# Altium footprint library SOT.PcbLib: 31 footprints (part 2 of 2)
Each footprint in its own frame and in the unit in brackets; x right, y up, seen from the top. Pads: shape width x height; smd on the part's side, far side on the other; paste and mask are expansions set on the pad; w line width, h text height; cw(c..) or ccw(c..) is an arc to the next point about the centre after c.
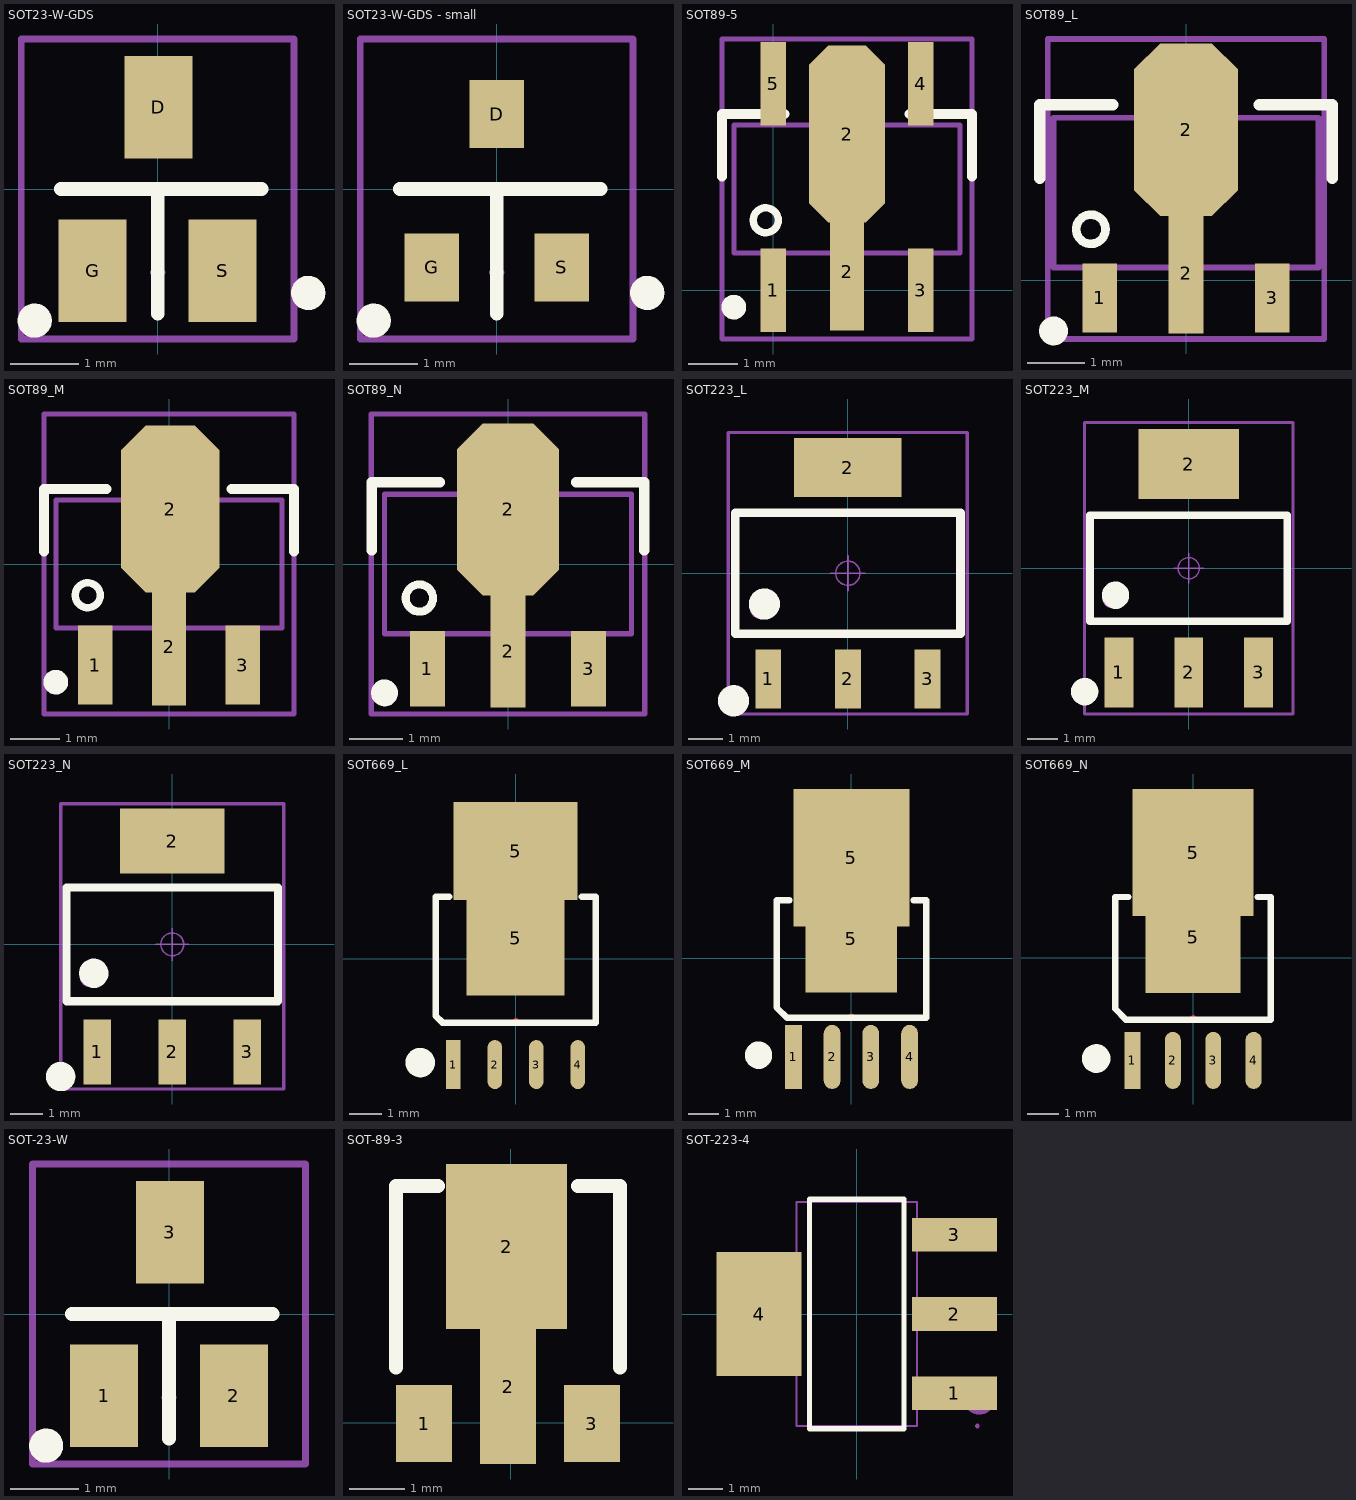
[diagram p1: the footprints below, top view; thin cyan lines are the x and y axes]

## SOT23-W-GDS [mm]
height 10
pads (3):
  rect 1x1.5 smd: D(0.013,1.2) G(-0.953,-1.2) S(0.953,-1.2)
Top Overlay:
  circle w0.25: c-1.801,-1.93 r0.125
  circle w0.25: c2.21,-1.524 r0.125
  lines w0.2: -1.422,0 1.524,0 ; 0,-1.829 0,0
Mechanical 15:
  lines w0.1: -0.064,-1.227 0.064,-1.227 ; -2,-2.2 -2,2.2 2,2.2 2,-2.2 -2,-2.2
3D body "SOT-23-3.STEP": height -0.38, standoff -1.58, extent -1.425,-1.375 1.475,1.425
3D body: height 0.1, standoff 0, extent -1.999,-2.199 1.999,2.199

## SOT23-W-GDS - small [mm]
height 10
pads (3):
  rect 0.8x1 smd: D(0,1.1) G(-0.953,-1.15) S(0.953,-1.15)
Top Overlay:
  circle w0.25: c2.21,-1.524 r0.125
  circle w0.25: c-1.801,-1.93 r0.125
  lines w0.2: -1.422,0 1.524,0 ; 0,-1.829 0,0
Mechanical 15:
  lines w0.1: -0.064,-1.227 0.064,-1.227 ; -2,-2.2 2,-2.2 2,2.2 -2,2.2 -2,-2.2
3D body "SOT-23-3.STEP": height -0.38, standoff -1.58, extent -1.425,-1.375 1.475,1.425
3D body: height 0.1, standoff 0, extent -1.999,-2.199 1.999,2.199

## SOT89-5 [mm]
pads (6):
  rect 0.52x1.7 smd: 1(0,0) 3(3,0) 4(3,4.191) 5(0,4.191)
  rect 0.7x2.4 smd: 2(1.5,0.378)
  oct 1.55x3.6 smd: 2(1.5,3.172)
Top Overlay:
  circle w0.25: c-0.8,-0.346 r0.125
  circle w0.15: c-0.151,1.419 r0.254
  lines w0.2: -1.04,2.308 -1.04,3.578 0.23,3.578 ; 2.77,3.578 4.04,3.578 4.04,2.308
Mechanical 13:
  circle w0.1: c-0.151,1.419 r0.25
  lines w0.1: -0.8,0.754 3.8,0.754 3.8,3.354 -0.8,3.354 -0.8,0.754
Mechanical 15:
  circle w0.05: c1.5,2.054 r0.35
  lines w0.05: 1,2.054 2,2.054 ; 1.5,1.554 1.5,2.554
  lines w0.1: -1.04,-0.994 -1.04,5.102 4.04,5.102 4.04,-0.994 -1.04,-0.994
3D body "SOT89.STEP": height 1.6, standoff 0.04, extent -0.8,-0.346 3.8,3.954

## SOT89_L [mm] "4.6x4.3x1.6mm(长宽高)"
height 1.6
pads (4):
  rect 0.6x1.2 smd: 1(-1.5,-0.303) 3(1.5,-0.303)
  rect 0.6x2.1 smd: 2(0,0.127)
  oct 1.8x3 smd: 2(0,2.616)
Top Overlay:
  circle w0.15: c-1.651,0.889 r0.254
  circle w0.25: c-2.3,-0.876 r0.125
  lines w0.2: -2.54,1.778 -2.54,3.048 -1.27,3.048 ; 1.27,3.048 2.54,3.048 2.54,1.778
Mechanical 13:
  circle w0.1: c-1.651,0.889 r0.25
  lines w0.1: -2.3,0.224 -2.3,2.824 2.3,2.824 2.3,0.224 -2.3,0.224
Mechanical 15:
  circle w0.05: c0,1.524 r0.35
  lines w0.05: -0.5,1.524 0.5,1.524 ; 0,1.024 0,2.024
  lines w0.1: -2.4,-1.016 -2.4,4.191 2.4,4.191 2.4,-1.016 -2.4,-1.016
3D body "SOT89.STEP": height 1.6, standoff 0.04, extent -2.3,-0.876 2.3,3.424

## SOT89_M [mm] "4.6x4.3x1.6mm(长宽高)"
height 1.6
pads (4):
  rect 0.7x1.6 smd: 1(-1.5,-2.054) 3(1.5,-2.054)
  rect 0.7x2.4 smd: 2(0,-1.676)
  oct 2x3.4 smd: 2(0.025,1.118)
Top Overlay:
  circle w0.15: c-1.651,-0.635 r0.254
  circle w0.25: c-2.3,-2.4 r0.125
  lines w0.2: -2.54,0.254 -2.54,1.524 -1.27,1.524 ; 1.27,1.524 2.54,1.524 2.54,0.254
Mechanical 13:
  circle w0.1: c-1.651,-0.635 r0.25
  lines w0.1: -2.3,-1.3 -2.3,1.3 2.3,1.3 2.3,-1.3 -2.3,-1.3
Mechanical 15:
  circle w0.05: c0,0 r0.35
  lines w0.05: -0.5,0 0.5,0 ; 0,-0.5 0,0.5
  lines w0.1: -2.54,-3.048 2.54,-3.048 2.54,3.048 -2.54,3.048 -2.54,-3.048
3D body "SOT89.STEP": height 1.6, standoff 0.04, extent -2.3,-2.4 2.3,1.9

## SOT89_N [mm] "4.6x4.3x1.6mm(长宽高)"
height 1.6
pads (4):
  rect 0.65x1.4 smd: 1(-1.5,-1.952) 3(1.5,-1.952)
  rect 0.65x2.1 smd: 2(0,-1.626)
  oct 1.9x3.2 smd: 2(0,1.016)
Top Overlay:
  circle w0.15: c-1.651,-0.635 r0.254
  circle w0.25: c-2.3,-2.4 r0.125
  lines w0.2: -2.54,0.254 -2.54,1.524 -1.27,1.524 ; 1.27,1.524 2.54,1.524 2.54,0.254
Mechanical 13:
  circle w0.1: c-1.651,-0.635 r0.25
  lines w0.1: -2.3,-1.3 -2.3,1.3 2.3,1.3 2.3,-1.3 -2.3,-1.3
Mechanical 15:
  circle w0.05: c0,0 r0.35
  lines w0.05: -0.5,0 0.5,0 ; 0,-0.5 0,0.5
  lines w0.1: -2.55,-2.794 2.55,-2.794 2.55,2.794 -2.55,2.794 -2.55,-2.794
3D body "SOT89.STEP": height 1.6, standoff 0.04, extent -2.3,-2.4 2.3,1.9

## SOT223_L [mm] "6.4x7x1.6mm(长宽高)"
height 1.7
pads (4):
  rect 0.75x1.7 smd: 1(-2.3,-3.048) 2(0,-3.048) 3(2.3,-3.048)
  rect 3.1x1.7 smd: 2(0,3.048)
Top Overlay:
  circle w0.5: c-3.302,-3.683 r0.2
  circle w0.5: c-2.413,-0.889 r0.2
  lines w0.25: -3.25,-1.75 3.25,-1.75 3.25,1.75 -3.25,1.75 -3.25,-1.75
Mechanical 13:
  circle w0.1: c-2.536,-1.016 r0.25
  lines w0.1: -3.25,-1.75 3.25,-1.75 3.25,1.75 -3.25,1.75 -3.25,-1.75
Mechanical 15:
  circle w0.05: c0,0 r0.35
  lines w0.05: -0.5,0 0.5,0 ; 0,-0.5 0,0.5
  lines w0.1: -3.45,-4.064 3.45,-4.064 3.45,4.064 -3.45,4.064 -3.45,-4.064
3D body "SOT223.STEP": height 1.65, standoff -0.02, extent -3.25,-3.508 3.25,3.508

## SOT223_M [mm] "6.4x7x1.6mm(长宽高)"
height 1.7
pads (4):
  rect 0.95x2.3 smd: 1(-2.3,-3.429) 2(0,-3.429) 3(2.3,-3.429)
  rect 3.3x2.3 smd: 2(0,3.429)
Top Overlay:
  circle w0.5: c-3.429,-4.064 r0.2
  circle w0.5: c-2.413,-0.889 r0.2
  lines w0.25: -3.25,-1.75 3.25,-1.75 3.25,1.75 -3.25,1.75 -3.25,-1.75
Mechanical 13:
  circle w0.1: c-2.536,-1.016 r0.25
  lines w0.1: -3.25,-1.75 -3.25,1.75 3.25,1.75 3.25,-1.75 -3.25,-1.75
Mechanical 15:
  circle w0.05: c0,0 r0.35
  lines w0.05: -0.5,0 0.5,0 ; 0,-0.5 0,0.5
  lines w0.1: -3.429,-4.8 -3.429,4.8 3.429,4.8 3.429,-4.8 -3.429,-4.8
3D body "SOT223.STEP": height 1.65, standoff -0.02, extent -3.25,-3.508 3.25,3.508

## SOT223_N [mm] "6.4x7x1.6mm(长宽高)"
height 1.7
pads (4):
  rect 0.85x2 smd: 1(-2.3,-3.302) 2(0,-3.302) 3(2.3,-3.302)
  rect 3.2x2 smd: 2(0,3.175)
Top Overlay:
  circle w0.5: c-2.413,-0.889 r0.2
  circle w0.5: c-3.429,-4.064 r0.2
  lines w0.25: -3.25,-1.75 -3.25,1.75 3.25,1.75 3.25,-1.75 -3.25,-1.75
Mechanical 13:
  circle w0.1: c-2.536,-1.016 r0.25
  lines w0.1: -3.25,-1.75 3.25,-1.75 3.25,1.75 -3.25,1.75 -3.25,-1.75
Mechanical 15:
  circle w0.05: c0,0 r0.35
  lines w0.05: -0.5,0 0.5,0 ; 0,-0.5 0,0.5
  lines w0.1: -3.429,-4.445 3.429,-4.445 3.429,4.318 -3.429,4.318 -3.429,-4.445
3D body "SOT223.STEP": height 1.65, standoff -0.02, extent -3.25,-3.508 3.25,3.508

## SOT669_L [mm] "6mm*4.9mm*1mm(长*宽*高）"
pads (6):
  rect 0.45x1.5 smd: 1(-1.905,-3.234)
  oval 0.45x1.5 smd: 2(-0.635,-3.234) 3(0.635,-3.234) 4(1.905,-3.234)
  rect 3x3.5 smd: 5(0,0.635)
  rect 3.8x3 smd: 5(0,3.302)
Top Layer:
  lines w0.203: 0,-1.905 0,-1.905
Top Overlay:
  circle w0.5: c-2.921,-3.175 r0.2
  lines w0.203: -2.032,1.905 -2.45,1.905 -2.45,-1.741 -2.241,-1.95 2.45,-1.95 2.45,1.905 2.032,1.905
Mechanical 15:
  circle w0.05: c0,0 r0.35
  lines w0.05: -0.5,0 0.5,0 ; 0,-0.5 0,0.5
3D body "SOT669.STEP": height 1.1, standoff -0.01, extent -2.45,-3.022 2.45,3.1

## SOT669_M [mm] "6mm*4.9mm*1mm(长*宽*高）"
pads (6):
  rect 0.55x2.1 smd: 1(-1.905,-3.234)
  oval 0.55x2.1 smd: 2(-0.635,-3.234) 3(0.635,-3.234) 4(1.905,-3.234)
  rect 3x3.5 smd: 5(0,0.635)
  rect 3.8x4.5 smd: 5(0,3.302)
Top Layer:
  lines w0.203: 0,-1.905 0,-1.905
Top Overlay:
  circle w0.5: c-3.048,-3.175 r0.2
  lines w0.203: -2.032,1.905 -2.45,1.905 -2.45,-1.614 -2.114,-1.95 2.45,-1.95 2.45,1.905 2.032,1.905
Mechanical 15:
  circle w0.05: c0,0 r0.35
  lines w0.05: -0.5,0 0.5,0 ; 0,-0.5 0,0.5
3D body "SOT669.STEP": height 1.1, standoff -0.01, extent -2.45,-3.022 2.45,3.1

## SOT669_N [mm] "6mm*4.9mm*1mm(长*宽*高）"
pads (6):
  rect 0.5x1.8 smd: 1(-1.905,-3.234)
  oval 0.5x1.8 smd: 2(-0.635,-3.234) 3(0.635,-3.234) 4(1.905,-3.234)
  rect 3x3.5 smd: 5(0,0.635)
  rect 3.8x4 smd: 5(0,3.302)
Top Layer:
  lines w0.203: 0,-1.905 0,-1.905
Top Overlay:
  circle w0.5: c-3.048,-3.175 r0.2
  lines w0.203: -2.032,1.905 -2.45,1.905 -2.45,-1.614 -2.114,-1.95 2.45,-1.95 2.45,1.905 2.032,1.905
Mechanical 15:
  circle w0.05: c0,0 r0.35
  lines w0.05: -0.5,0 0.5,0 ; 0,-0.5 0,0.5
3D body "SOT669.STEP": height 1.1, standoff -0.01, extent -2.45,-3.022 2.45,3.1

## SOT-23-W [mm]
height 10
pads (3):
  rect 1x1.5 smd: 1(-0.953,-1.2) 2(0.953,-1.2) 3(0.013,1.2)
Top Overlay:
  circle w0.25: c-1.801,-1.93 r0.125
  lines w0.2: -1.422,0 1.524,0 ; 0,-1.829 0,0
Mechanical 15:
  lines w0.1: -0.064,-1.227 0.064,-1.227 ; -2,-2.2 -2,2.2 2,2.2 2,-2.2 -2,-2.2
3D body "SOT-23-3.STEP": height -0.38, standoff -1.58, extent -1.425,-1.375 1.475,1.425
3D body: height 0.1, standoff 0, extent -1.999,-2.199 1.999,2.199

## SOT-89-3 [mm]
height 10
pads (4):
  rect 1.016x1.397 smd: 1(-1.57,-0.015) 3(1.478,-0.015)
  rect 2.2x3 smd: 2(-0.07,3.2)
  rect 1.016x2.8 smd: 2(-0.046,0.65)
Top Overlay:
  lines w0.254: -2.078,1.001 -2.078,4.303 -1.316,4.303 ; 1.224,4.303 1.986,4.303 1.986,1.001
3D body "SOT-89.STEP": height 1.51, standoff 0, extent -2.288,-0.164 2.212,4.136

## SOT-223-4 [mm]
pads (4):
  rect 2.47x0.98 smd: 1(2.835,-2.3) 2(2.835,0) 3(2.835,2.3)
  rect 2.47x3.6 smd: 4(-2.835,0)
Top Overlay:
  lines w0.152: -1.371,-3.326 -1.371,3.326 1.371,3.326 1.371,-3.326 -1.371,-3.326
Mechanical 6:
  circle w0.5: c3.556,-2.413 r0.25
Mechanical 15:
  region: 3.56,-3.25 3.56,-3.225 3.525,-3.19 3.475,-3.19 3.44,-3.225 3.44,-3.25 3.44,-3.275 3.475,-3.31 3.525,-3.31 3.56,-3.275
  region: 2.55,-2.65 2.55,-1.95 3.5,-1.95 3.5,-2.65
  region: 1.74,-2.65 1.74,-1.95 2.56,-1.95 2.56,-2.65
  region: 2.55,-0.35 2.55,0.35 3.5,0.35 3.5,-0.35
  region: 1.74,-0.35 1.74,0.35 2.56,0.35 2.56,-0.35
  region: 2.55,1.95 2.55,2.65 3.5,2.65 3.5,1.95
  region: 1.74,1.95 1.74,2.65 2.56,2.65 2.56,1.95
  region: -2.55,-1.5 -2.55,1.5 -3.5,1.5 -3.5,-1.5
  region: -2.56,-1.5 -2.56,1.5 -1.74,1.5 -1.74,-1.5
  lines w0.051: -1.75,-3.25 -1.75,3.25 1.75,3.25 1.75,-3.25 -1.75,-3.25